# EAGLE library part CMA-5043+ (library My_Library_RADAR)
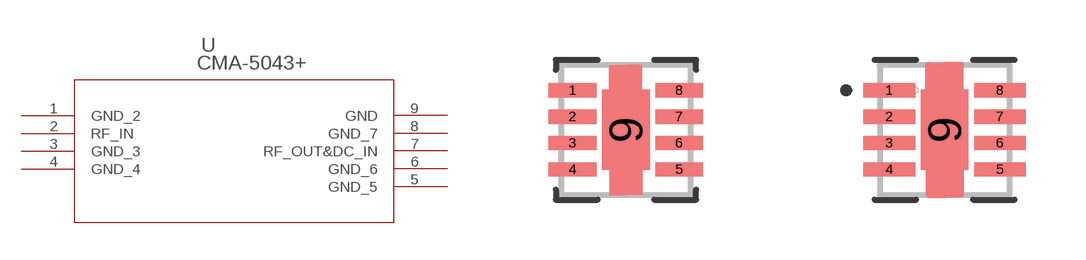
[diagram p12: symbol with the pads of DL1721_MNC; footprints DL1721_MNC, DL1721_MNC-M]

Designator prefix U

## CMA-5043+ (COPYRIGHT: Copyright (C) 2025 Ultra Librarian. All rights reserved.; MANUFACTURER_PART_NUMBER: CMA-5043+; MFR_NAME: Mini Circuits)  [DL1721_MNC]
1  GND_2  pas
2  RF_IN  in
3  GND_3  pas
4  GND_4  pas
5  GND_5  pas
6  GND_6  pas
7  RF_OUT&DC_IN  out
8  GND_7  pas
9  GND  pas

## CMA-5043+DL1721_MNC-M (COPYRIGHT: Copyright (C) 2025 Ultra Librarian. All rights reserved.; MANUFACTURER_PART_NUMBER: CMA-5043+; MFR_NAME: Mini Circuits)  [DL1721_MNC-M]
Pads as for DL1721_MNC

## CMA-5043+DL1721_MNC-L (COPYRIGHT: Copyright (C) 2025 Ultra Librarian. All rights reserved.; MANUFACTURER_PART_NUMBER: CMA-5043+; MFR_NAME: Mini Circuits)  [DL1721_MNC-L]
Pads as for DL1721_MNC

## Footprint DL1721_MNC (pad centres in mm)
smd 1.194 x 0.356: 1 -1.333,0.991; 2 -1.333,0.33; 3 -1.333,-0.33; 4 -1.333,-0.991; 5 1.333,-0.991; 6 1.333,-0.33; 7 1.333,0.33; 8 1.333,0.991
smd 1.194 x 2.007: 9 0,0

## Footprint DL1721_MNC-M (pad centres in mm)
smd 1.295 x 0.356: 1 -1.384,0.991; 2 -1.384,0.33; 3 -1.384,-0.33; 4 -1.384,-0.991; 5 1.384,-0.991; 6 1.384,-0.33; 7 1.384,0.33; 8 1.384,0.991
smd 1.194 x 2.007: 9 0,0

## Footprint DL1721_MNC-L (pad centres in mm)
smd 1.092 x 0.356: 1 -1.283,0.991; 2 -1.283,0.33; 3 -1.283,-0.33; 4 -1.283,-0.991; 5 1.283,-0.991; 6 1.283,-0.33; 7 1.283,0.33; 8 1.283,0.991
smd 1.194 x 2.007: 9 0,0